# Altium schematic symbol library TFBS4711.SchLib: 1 symbol
Pins are listed as number, name and electrical type; pins without a type are passive.

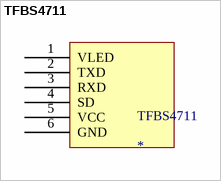
[diagram p0: symbol TFBS4711]

## TFBS4711
designator TFBS4711
footprint TFBS4711
pins: 1 VLED, 2 TXD, 3 RXD, 4 SD, 5 VCC, 6 GND